# Altium schematic symbol library Rotate.SchLib: 8 symbols
Pins are listed as number, name and electrical type; pins without a type are passive.

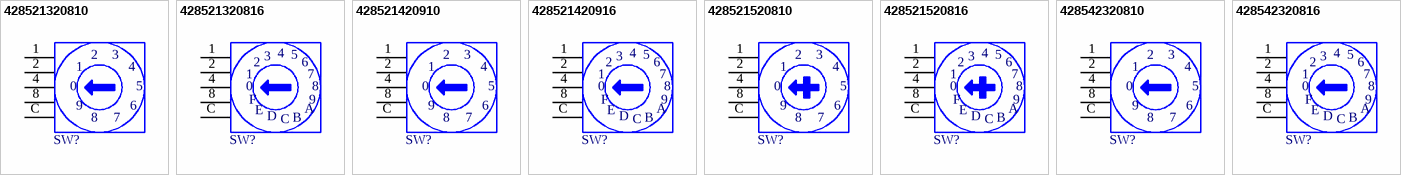
[diagram p0: symbols 428521320810 to 428542320816]

## 428521320810
designator SW?  (value not drawn)
WS-ROSV SMT Rotary Switch with Arrow Type Actuator, 10 x 10mm, Arrow Type, 10p; Manufacturer: Wurth Elektronik; Cover Material: LCP; Number of Positions: 10; Rated Current: 150mA; Rated Voltage: 24VDC; Washable: Yes; Manufacturer Part Number: 428521320810; Category: Rotary Switches; Match Code: WS-ROSV; Mount: Surface Mount; Operating Temperature Max: 85°C; Operating Temperature Min: -40°C; Packaging: Tape and Reel; Length: 10mm; Width: 10mm; Height: 6.8mm; Actuator Type: Arrow Type; Terminal Plating: Gold; Supplier 1 URL: https://www.mouser.com/ProductDetail/Wurth-Elektronik/428521320810?qs=wr8lucFkNMUpy6beNSSacg%3D%3D; Supplier 2 URL: https://www.digikey.com/en/products/detail/w%C3%BCrth-elektronik/428521320810/5208950; Supplier 3 URL: N/A; LCSC Part #: N/A; Supplier 1: Mouser; Supplier 1 Part Number: 710-428521320810; Supplier 2: Digi-Key; Supplier 2 Part Number: 732-6979-2-ND; Supplier 3: thegioiic; Supplier 3 Part Number: OEM; Value: 428521320810; ComponentLink1Description: Datasheet; ComponentLink1URL: https://www.we-online.com/redexpert/spec/428521320810?ad
footprint 42852132081x_10p
pins: 1, 2, 4, 8, C
text: 3; 0; 5; 9; 6; 7

## 428521320816
designator SW?  (value not drawn)
WS-ROSV SMT Rotary Switch with Arrow Type Actuator, 10 x 10mm, Arrow Type, 16p; Manufacturer: Wurth Elektronik; Cover Material: LCP; Number of Positions: 16; Rated Current: 150mA; Rated Voltage: 24VDC; Washable: Yes; Manufacturer Part Number: 428521320816; Category: Rotary Switches; Match Code: WS-ROSV; Mount: Surface Mount; Operating Temperature Max: 85°C; Operating Temperature Min: -40°C; Packaging: Tape and Reel; Length: 10mm; Width: 10mm; Height: 6.8mm; Actuator Type: Arrow Type; Terminal Plating: Gold; Supplier 1 URL: https://www.mouser.com/ProductDetail/Wurth-Elektronik/428521320816?qs=wr8lucFkNMWmwdAd8vKg1Q%3D%3D; Supplier 2 URL: https://www.digikey.com/en/products/detail/w%C3%BCrth-elektronik/428521320816/5208952; Supplier 3 URL: N/A; LCSC Part #: N/A; Supplier 1: Mouser; Supplier 1 Part Number: 710-428521320816; Supplier 2: Digi-Key; Supplier 2 Part Number: 732-6981-2-ND; Supplier 3: thegioiic; Supplier 3 Part Number: OEM; Value: 428521320816; ComponentLink1Description: Datasheet; ComponentLink1URL: https://www.we-online.com/redexpert/spec/428521320816?ad
footprint 42852132081x_16p
pins: 1, 2, 4, 8, C
text: 3; 5; 6; 7; 0; F; 9; E; A; D; B

## 428521420910
designator SW?  (value not drawn)
WS-ROSV SMT Rotary Switch with Shaft Type Actuator, 10 x 10mm, Shaft Type, 10p; Manufacturer: Wurth Elektronik; Cover Material: LCP; Number of Positions: 10; Rated Current: 150mA; Rated Voltage: 24VDC; Washable: Yes; Manufacturer Part Number: 428521420910; Category: Rotary Switches; Match Code: WS-ROSV; Mount: Surface Mount; Operating Temperature Max: 85°C; Operating Temperature Min: -40°C; Packaging: Tube; Length: 10mm; Width: 10mm; Height: 14.1mm; Actuator Type: Shaft Type; Terminal Plating: Gold; Supplier 1 URL: https://www.mouser.com/ProductDetail/Wurth-Elektronik/428521420910?qs=wr8lucFkNMXwqpE94nsI6w%3D%3D; Supplier 2 URL: https://www.digikey.com/en/products/detail/w%C3%BCrth-elektronik/428521420910/5208954; Supplier 3 URL: N/A; LCSC Part #: N/A; Supplier 1: Mouser; Supplier 1 Part Number: 710-428521420910; Supplier 2: Digi-Key; Supplier 2 Part Number: 428521420910-ND; Supplier 3: thegioiic; Supplier 3 Part Number: OEM; Value: 428521420910; ComponentLink1Description: Datasheet; ComponentLink1URL: https://www.we-online.com/redexpert/spec/428521420910?ad
footprint 42852142091x_10p
pins: 1, 2, 4, 8, C
text: 3; 0; 5; 9; 6; 7

## 428521420916
designator SW?  (value not drawn)
WS-ROSV SMT Rotary Switch with Shaft Type Actuator, 10 x 10mm, Shaft Type, 16p; Manufacturer: Wurth Elektronik; Cover Material: LCP; Number of Positions: 16; Rated Current: 150mA; Rated Voltage: 24VDC; Washable: Yes; Manufacturer Part Number: 428521420916; Category: Rotary Switches; Match Code: WS-ROSV; Mount: Surface Mount; Operating Temperature Max: 85°C; Operating Temperature Min: -40°C; Packaging: Tube; Length: 10mm; Width: 10mm; Height: 14.1mm; Actuator Type: Shaft Type; Terminal Plating: Gold; Supplier 1 URL: https://www.mouser.com/ProductDetail/Wurth-Elektronik/428521420916?qs=wr8lucFkNMW3qIoo2M5uKQ%3D%3D; Supplier 2 URL: https://www.digikey.com/en/products/detail/w%C3%BCrth-elektronik/428521420916/5208956; Supplier 3 URL: N/A; LCSC Part #: N/A; Supplier 1: Mouser; Supplier 1 Part Number: 710-428521420916; Supplier 2: Digi-Key; Supplier 2 Part Number: 428521420916-ND; Supplier 3: thegioiic; Supplier 3 Part Number: OEM; Value: 428521420916; ComponentLink1Description: Datasheet; ComponentLink1URL: https://www.we-online.com/redexpert/spec/428521420916?ad
footprint 42852142091x_16p
pins: 1, 2, 4, 8, C
text: 3; 5; 6; 7; 0; F; 9; E; A; D; B

## 428521520810
designator SW?  (value not drawn)
WS-ROSV SMT Rotary Switch with Cross Type Actuator, 10 x 10mm, Cross Type, 10p; Manufacturer: Wurth Elektronik; Cover Material: LCP; Number of Positions: 10; Rated Current: 150mA; Rated Voltage: 24VDC; Washable: Yes; Manufacturer Part Number: 428521520810; Category: Rotary Switches; Match Code: WS-ROSV; Mount: Surface Mount; Operating Temperature Max: 85°C; Operating Temperature Min: -40°C; Packaging: Tape and Reel; Length: 10mm; Width: 10mm; Height: 6.8mm; Actuator Type: Cross Type; Terminal Plating: Gold; Supplier 1 URL: https://www.mouser.com/ProductDetail/Wurth-Elektronik/428521520810?qs=wr8lucFkNMWti1LSMROS6g%3D%3D; Supplier 2 URL: https://www.digikey.com/en/products/detail/w%C3%BCrth-elektronik/428521520810/5208958; Supplier 3 URL: N/A; LCSC Part #: N/A; Supplier 1: Mouser; Supplier 1 Part Number: 710-428521520810; Supplier 2: Digi-Key; Supplier 2 Part Number: 732-6983-2-ND; Supplier 3: thegioiic; Supplier 3 Part Number: OEM; Value: 428521520810; ComponentLink1Description: Datasheet; ComponentLink1URL: https://www.we-online.com/redexpert/spec/428521520810?ad
footprint 42852152081x_10p
pins: 1, 2, 4, 8, C
text: 3; 0; 5; 9; 6; 7

## 428521520816
designator SW?  (value not drawn)
WS-ROSV SMT Rotary Switch with Cross Type Actuator, 10 x 10mm, Cross Type, 16p; Manufacturer: Wurth Elektronik; Cover Material: LCP; Number of Positions: 16; Rated Current: 150mA; Rated Voltage: 24VDC; Washable: Yes; Manufacturer Part Number: 428521520816; Category: Rotary Switches; Match Code: WS-ROSV; Mount: Surface Mount; Operating Temperature Max: 85°C; Operating Temperature Min: -40°C; Packaging: Tape and Reel; Length: 10mm; Width: 10mm; Height: 6.8mm; Actuator Type: Cross Type; Terminal Plating: Gold; Supplier 1 URL: https://www.mouser.com/ProductDetail/Wurth-Elektronik/428521520816?qs=wr8lucFkNMU0U%252BlzMyiYQw%3D%3D; Supplier 2 URL: https://www.digikey.com/en/products/detail/w%C3%BCrth-elektronik/428521520816/5208960; Supplier 3 URL: N/A; LCSC Part #: N/A; Supplier 1: Mouser; Supplier 1 Part Number: 710-428521520816; Supplier 2: Digi-Key; Supplier 2 Part Number: 732-6985-2-ND; Supplier 3: thegioiic; Supplier 3 Part Number: OEM; Value: 428521520816; ComponentLink1Description: Datasheet; ComponentLink1URL: https://www.we-online.com/redexpert/spec/428521520816?ad
footprint 42852152081x_16p
pins: 1, 2, 4, 8, C
text: 3; 5; 6; 7; 0; F; 9; E; A; D; B

## 428542320810
designator SW?  (value not drawn)
WS-ROSV SMT Rotary Switch with Arrow Type Actuator, 7 x 7mm, Arrow Type, 10p; Manufacturer: Wurth Elektronik; Cover Material: Stainless Steel; Number of Positions: 10; Rated Current: 100mA; Rated Voltage: 42VDC; Washable: Yes; Manufacturer Part Number: 428542320810; Category: Rotary Switches; Match Code: WS-ROSV; Mount: Surface Mount; Operating Temperature Max: 125°C; Operating Temperature Min: -60°C; Packaging: Tape and Reel; Length: 7mm; Width: 7mm; Height: 3.85mm; Actuator Type: Arrow Type; Terminal Plating: Gold; Supplier 1 URL: https://www.mouser.com/ProductDetail/Wurth-Elektronik/428542320810?qs=wr8lucFkNMUk5NtybBGVHw%3D%3D; Supplier 2 URL: https://www.digikey.com/en/products/detail/w%C3%BCrth-elektronik/428542320810/5208978; Supplier 3 URL: N/A; LCSC Part #: N/A; Supplier 1: Mouser; Supplier 1 Part Number: 710-428542320810; Supplier 2: Digi-Key; Supplier 2 Part Number: 732-6987-2-ND; Supplier 3: thegioiic; Supplier 3 Part Number: OEM; Value: 428542320810; ComponentLink1Description: Datasheet; ComponentLink1URL: https://www.we-online.com/redexpert/spec/428542320810?ad
footprint 42854232081x_10p
pins: 1, 2, 4, 8, C
text: 3; 0; 5; 9; 6; 7

## 428542320816
designator SW?  (value not drawn)
WS-ROSV SMT Rotary Switch with Arrow Type Actuator, 7 x 7mm, Arrow Type, 16p; Manufacturer: Wurth Elektronik; Cover Material: Stainless Steel; Number of Positions: 16; Rated Current: 100mA; Rated Voltage: 42VDC; Washable: Yes; Manufacturer Part Number: 428542320816; Category: Rotary Switches; Match Code: WS-ROSV; Mount: Surface Mount; Operating Temperature Max: 125°C; Operating Temperature Min: -60°C; Packaging: Tape and Reel; Length: 7mm; Width: 7mm; Height: 3.85mm; Actuator Type: Arrow Type; Terminal Plating: Gold; Supplier 1 URL: https://www.mouser.com/ProductDetail/Wurth-Elektronik/428542320816?qs=wr8lucFkNMUrQL8A0L1uyg%3D%3D; Supplier 2 URL: https://www.digikey.com/en/products/detail/w%C3%BCrth-elektronik/428542320816/5208980; Supplier 3 URL: N/A; LCSC Part #: N/A; Supplier 1: Mouser; Supplier 1 Part Number: 710-428542320816; Supplier 2: Digi-Key; Supplier 2 Part Number: 732-6989-2-ND; Supplier 3: thegioiic; Supplier 3 Part Number: OEM; Value: 428542320816; ComponentLink1Description: Datasheet; ComponentLink1URL: https://www.we-online.com/redexpert/spec/428542320816?ad
footprint 42854232081x_16p
pins: 1, 2, 4, 8, C
text: 3; 5; 6; 7; 0; F; 9; E; A; D; B